# Altium schematic symbol library Header-254-double-horizontal-F.SchLib: 23 symbols
Pins are listed as number, name and electrical type; pins without a type are passive.

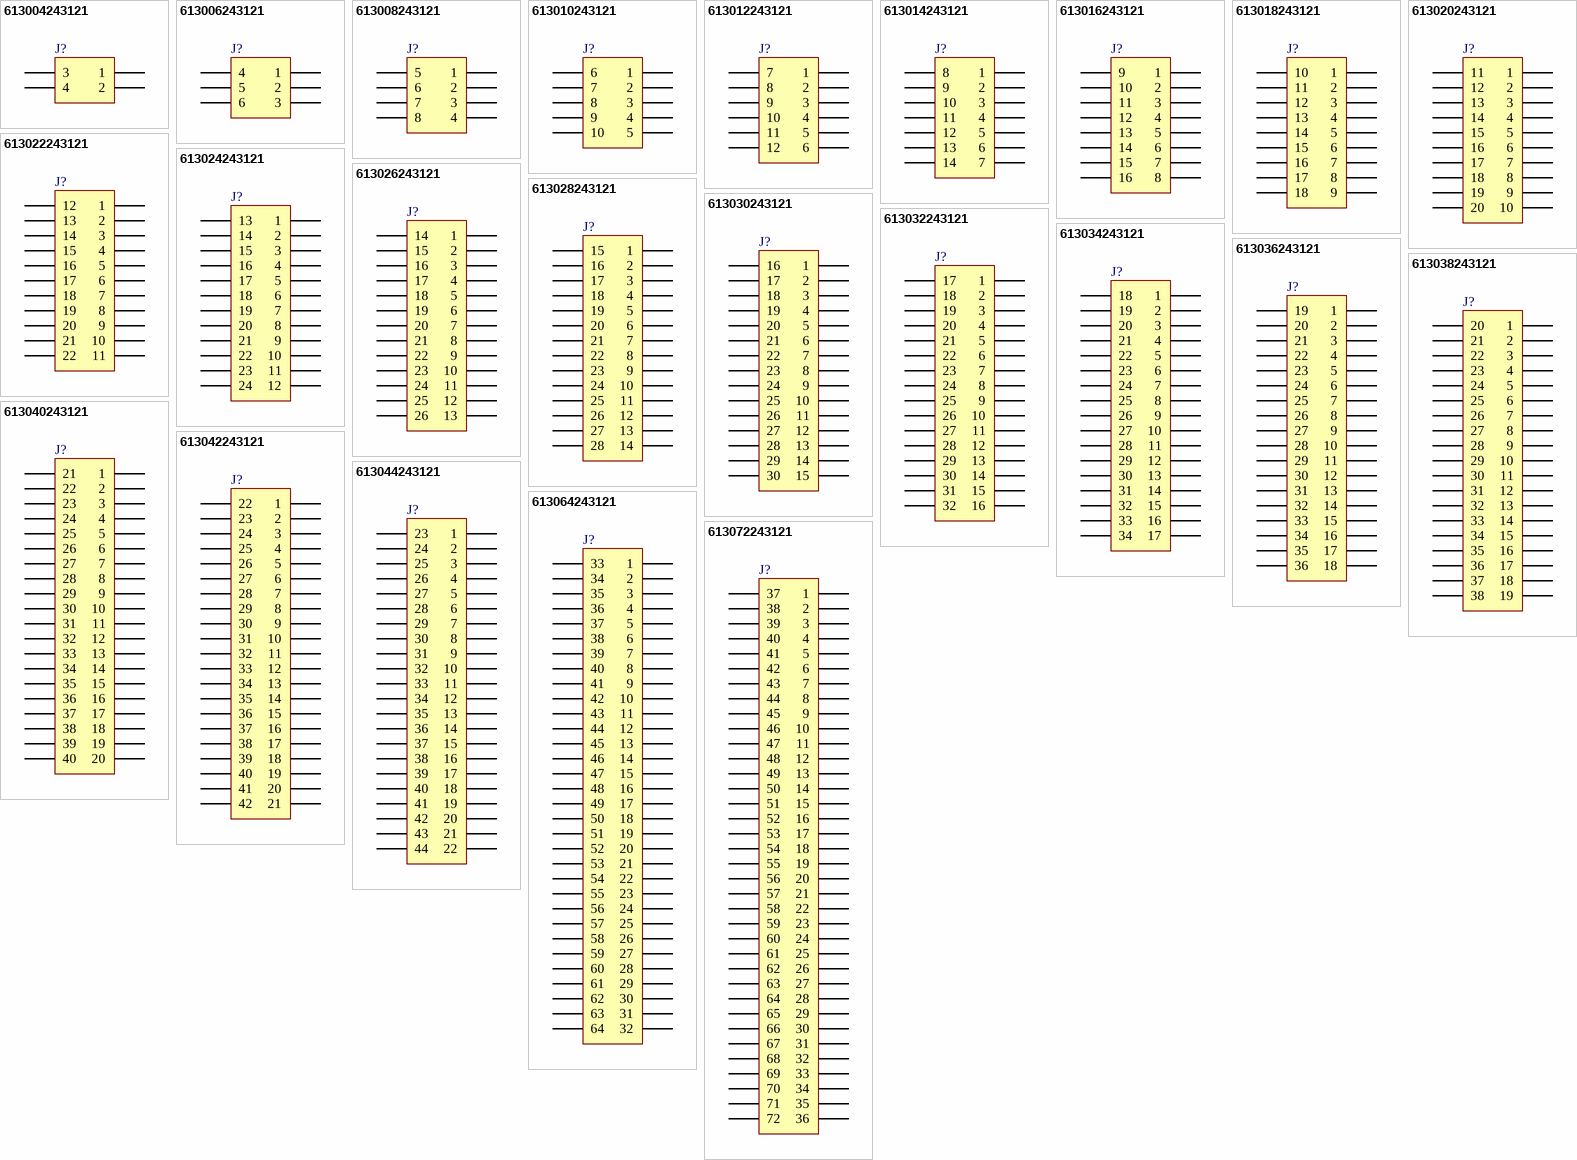
[diagram p0: symbols 613004243121 to 613072243121]

## 613004243121
designator J?, comment 04p  (value not drawn)
WR-PHD 2.54 mm Angled Dual Socket Header, 04p; Part Number: 613004243121; Vendor: Wurth Elektronik; Value: 04p
footprint 613004243121
pins: 1, 2, 3, 4

## 613006243121
designator J?, comment 06p  (value not drawn)
WR-PHD 2.54 mm Angled Dual Socket Header, 06p; Part Number: 613006243121; Vendor: Wurth Elektronik; Value: 06p
footprint 613006243121
pins: 1, 2, 3, 4, 5, 6

## 613008243121
designator J?, comment 08p  (value not drawn)
WR-PHD 2.54 mm Angled Dual Socket Header, 08p; Part Number: 613008243121; Vendor: Wurth Elektronik; Value: 08p
footprint 613008243121
pins: 1, 2, 3, 4, 5, 6, 7, 8

## 613010243121
designator J?, comment 10p  (value not drawn)
WR-PHD 2.54 mm Angled Dual Socket Header, 10p; Part Number: 613010243121; Vendor: Wurth Elektronik; Value: 10p
footprint 613010243121
pins: 1, 2, 3, 4, 5, 6, 7, 8, 9, 10

## 613012243121
designator J?, comment 12p  (value not drawn)
WR-PHD 2.54 mm Angled Dual Socket Header, 12p; Part Number: 613012243121; Vendor: Wurth Elektronik; Value: 12p
footprint 613012243121
pins: 1, 2, 3, 4, 5, 6, 7, 8, 9, 10, 11, 12

## 613014243121
designator J?, comment 14p  (value not drawn)
WR-PHD 2.54 mm Angled Dual Socket Header, 14p; Part Number: 613014243121; Vendor: Wurth Elektronik; Value: 14p
footprint 613014243121
pins: 1, 2, 3, 4, 5, 6, 7, 8, 9, 10, 11, 12, 13, 14

## 613016243121
designator J?, comment 16p  (value not drawn)
WR-PHD 2.54 mm Angled Dual Socket Header, 16p; Part Number: 613016243121; Vendor: Wurth Elektronik; Value: 16p
footprint 613016243121
pins: 1, 2, 3, 4, 5, 6, 7, 8, 9, 10, 11, 12, 13, 14, 15, 16

## 613018243121
designator J?, comment 18p  (value not drawn)
WR-PHD 2.54 mm Angled Dual Socket Header, 18p; Part Number: 613018243121; Vendor: Wurth Elektronik; Value: 18p
footprint 613018243121
pins: 1, 2, 3, 4, 5, 6, 7, 8, 9, 10, 11, 12, 13, 14, 15, 16, 17, 18

## 613020243121
designator J?, comment 20p  (value not drawn)
WR-PHD 2.54 mm Angled Dual Socket Header, 20p; Part Number: 613020243121; Vendor: Wurth Elektronik; Value: 20p
footprint 613020243121
pins: 1, 2, 3, 4, 5, 6, 7, 8, 9, 10, 11, 12, 13, 14, 15, 16, 17, 18, 19, 20

## 613022243121
designator J?, comment 22p  (value not drawn)
WR-PHD 2.54 mm Angled Dual Socket Header, 22p; Part Number: 613022243121; Vendor: Wurth Elektronik; Value: 22p
footprint 613022243121
pins: 1, 2, 3, 4, 5, 6, 7, 8, 9, 10, 11, 12, 13, 14, 15, 16, 17, 18, 19, 20, 21, 22

## 613024243121
designator J?, comment 24p  (value not drawn)
WR-PHD 2.54 mm Angled Dual Socket Header, 24p; Part Number: 613024243121; Vendor: Wurth Elektronik; Value: 24p
footprint 613024243121
pins: 1, 2, 3, 4, 5, 6, 7, 8, 9, 10, 11, 12, 13, 14, 15, 16, 17, 18, 19, 20, 21, 22, 23, 24

## 613026243121
designator J?, comment 26p  (value not drawn)
WR-PHD 2.54 mm Angled Dual Socket Header, 26p; Part Number: 613026243121; Vendor: Wurth Elektronik; Value: 26p
footprint 613026243121
pins: 1, 2, 3, 4, 5, 6, 7, 8, 9, 10, 11, 12, 13, 14, 15, 16, 17, 18, 19, 20, 21, 22, 23, 24, 25, 26

## 613028243121
designator J?, comment 28p  (value not drawn)
WR-PHD 2.54 mm Angled Dual Socket Header, 28p; Part Number: 613028243121; Vendor: Wurth Elektronik; Value: 28p
footprint 613028243121
pins: 1, 2, 3, 4, 5, 6, 7, 8, 9, 10, 11, 12, 13, 14, 15, 16, 17, 18, 19, 20, 21, 22, 23, 24, 25, 26, 27, 28

## 613030243121
designator J?, comment 30p  (value not drawn)
WR-PHD 2.54 mm Angled Dual Socket Header, 30p; Part Number: 613030243121; Vendor: Wurth Elektronik; Value: 30p
footprint 613030243121
pins: 1, 2, 3, 4, 5, 6, 7, 8, 9, 10, 11, 12, 13, 14, 15, 16, 17, 18, 19, 20, 21, 22, 23, 24, 25, 26, 27, 28, 29, 30

## 613032243121
designator J?, comment 32p  (value not drawn)
WR-PHD 2.54 mm Angled Dual Socket Header, 32p; Part Number: 613032243121; Vendor: Wurth Elektronik; Value: 32p
footprint 613032243121
pins: 1, 2, 3, 4, 5, 6, 7, 8, 9, 10, 11, 12, 13, 14, 15, 16, 17, 18, 19, 20, 21, 22, 23, 24, 25, 26, 27, 28, 29, 30, 31, 32

## 613034243121
designator J?, comment 34p  (value not drawn)
WR-PHD 2.54 mm Angled Dual Socket Header, 34p; Part Number: 613034243121; Vendor: Wurth Elektronik; Value: 34p
footprint 613034243121
pins: 1, 2, 3, 4, 5, 6, 7, 8, 9, 10, 11, 12, 13, 14, 15, 16, 17, 18, 19, 20, 21, 22, 23, 24, 25, 26, 27, 28, 29, 30, 31, 32, 33, 34

## 613036243121
designator J?, comment 36p  (value not drawn)
WR-PHD 2.54 mm Angled Dual Socket Header, 36p; Part Number: 613036243121; Vendor: Wurth Elektronik; Value: 36p
footprint 613036243121
pins: 1, 2, 3, 4, 5, 6, 7, 8, 9, 10, 11, 12, 13, 14, 15, 16, 17, 18, 19, 20, 21, 22, 23, 24, 25, 26, 27, 28, 29, 30, 31, 32, 33, 34, 35, 36

## 613038243121
designator J?, comment 38p  (value not drawn)
WR-PHD 2.54 mm Angled Dual Socket Header, 38p; Part Number: 613038243121; Vendor: Wurth Elektronik; Value: 38p
footprint 613038243121
pins: 1, 2, 3, 4, 5, 6, 7, 8, 9, 10, 11, 12, 13, 14, 15, 16, 17, 18, 19, 20, 21, 22, 23, 24, 25, 26, 27, 28, 29, 30, 31, 32, 33, 34, 35, 36, 37, 38

## 613040243121
designator J?, comment 40p  (value not drawn)
WR-PHD 2.54 mm Angled Dual Socket Header, 40p; Part Number: 613040243121; Vendor: Wurth Elektronik; Value: 40p
footprint 613040243121
pins: 1, 2, 3, 4, 5, 6, 7, 8, 9, 10, 11, 12, 13, 14, 15, 16, 17, 18, 19, 20, 21, 22, 23, 24, 25, 26, 27, 28, 29, 30, 31, 32, 33, 34, 35, 36, 37, 38, 39, 40

## 613042243121
designator J?, comment 42p  (value not drawn)
WR-PHD 2.54 mm Angled Dual Socket Header, 42p; Part Number: 613042243121; Vendor: Wurth Elektronik; Value: 42p
footprint 613042243121
pins: 1, 2, 3, 4, 5, 6, 7, 8, 9, 10, 11, 12, 13, 14, 15, 16, 17, 18, 19, 20, 21, 22, 23, 24, 25, 26, 27, 28, 29, 30, 31, 32, 33, 34, 35, 36, 37, 38, 39, 40, 41, 42

## 613044243121
designator J?, comment 44p  (value not drawn)
WR-PHD 2.54 mm Angled Dual Socket Header, 44p; Part Number: 613044243121; Vendor: Wurth Elektronik; Value: 44p
footprint 613044243121
pins: 1, 2, 3, 4, 5, 6, 7, 8, 9, 10, 11, 12, 13, 14, 15, 16, 17, 18, 19, 20, 21, 22, 23, 24, 25, 26, 27, 28, 29, 30, 31, 32, 33, 34, 35, 36, 37, 38, 39, 40, 41, 42, 43, 44

## 613064243121
designator J?, comment 64p  (value not drawn)
WR-PHD 2.54 mm Angled Dual Socket Header, 64p; Part Number: 613064243121; Vendor: Wurth Elektronik; Value: 64p
footprint 613064243121
pins: 1, 2, 3, 4, 5, 6, 7, 8, 9, 10, 11, 12, 13, 14, 15, 16, 17, 18, 19, 20, 21, 22, 23, 24, 25, 26, 27, 28, 29, 30, 31, 32, 33, 34, 35, 36, 37, 38, 39, 40, 41, 42, 43, 44, 45, 46, 47, 48, 49, 50, 51, 52, 53, 54, 55, 56, 57, 58, 59, 60, 61, 62, 63, 64

## 613072243121
designator J?, comment 72p  (value not drawn)
WR-PHD 2.54 mm Angled Dual Socket Header, 72p; Part Number: 613072243121; Vendor: Wurth Elektronik; Value: 72p
footprint 613072243121
pins: 1, 2, 3, 4, 5, 6, 7, 8, 9, 10, 11, 12, 13, 14, 15, 16, 17, 18, 19, 20, 21, 22, 23, 24, 25, 26, 27, 28, 29, 30, 31, 32, 33, 34, 35, 36, 37, 38, 39, 40, 41, 42, 43, 44, 45, 46, 47, 48, 49, 50, 51, 52, 53, 54, 55, 56, 57, 58, 59, 60, 61, 62, 63, 64, 65, 66, 67, 68, 69, 70, 71, 72